# EAGLE library part CS4344 (library cirrus-2)
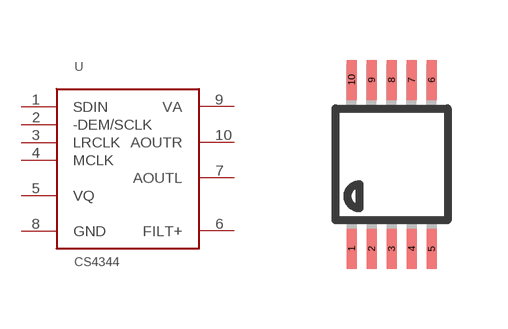
[diagram p10: symbol with the pads of MSOP10; footprint MSOP10]

Designator prefix -

## CS4344  [MSOP10]
1  SDIN  in
2  -DEM/SCLK  in
3  LRCLK  in
4  MCLK  in
5  VQ  pas
6  FILT+  pas
7  AOUTL  out
8  GND  pwr
9  VA  pwr
10  AOUTR  out

## Footprint MSOP10 (pad centres in mm)
10-Lead Mini Small Outline Package [MSOP] (RM-10) Source: http://www.analog.com/UploadedFiles/Data_Sheets/35641221898805SSM2167_b.pdf COMPLIANT TO JEDEC STANDARDS MO-187BA
smd 0.25 x 1: 1 -1,-2.113; 2 -0.5,-2.113; 3 0,-2.113; 4 0.5,-2.113; 5 1,-2.113; 6 1,2.113; 7 0.5,2.113; 8 0,2.113; 9 -0.5,2.113; 10 -1,2.113